# Altium schematic symbol library FSUSB42UMX.Schlib: 1 symbol
Pins are listed as number, name and electrical type; pins without a type are passive.

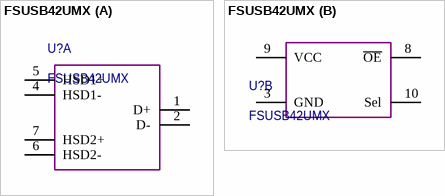
[diagram p0: symbol FSUSB42UMX]

## FSUSB42UMX
designator U?
part A pins: 1 D+, 2 D-, 4 HSD1-, 5 HSD1+, 6 HSD2-, 7 HSD2+
part B pins: 3 GND, 8 ~{OE}, 9 VCC, 10 Sel